# Altium schematic symbol library MIC23150-4YMT.SchLib: 1 symbol
Pins are listed as number, name and electrical type; pins without a type are passive.

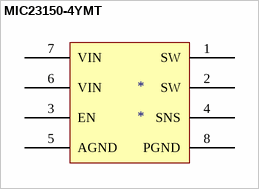
[diagram p0: symbol MIC23150-4YMT]

## MIC23150-4YMT
designator *
pins: 1 SW, 2 SW, 3 EN (hiz), 4 SNS, 5 AGND, 6 VIN (power), 7 VIN (power), 8 PGND